# Altium integrated library Integrated_Library1.IntLib: 1 symbol
Pins are listed as number, name and electrical type; pins without a type are passive.

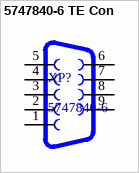
[diagram p0: symbol 5747840-6 TE Con]

## 5747840-6 TE Con
designator XP?, comment 5747840-6
footprint 5747840-6 TE Con
pins: 1, 2, 3, 4, 5, 6, 7, 8, 9